# Altium footprint library TSSOP-24.PcbLib: 1 footprints
Each footprint in its own frame and in the unit in brackets; x right, y up, seen from the top. Pads: shape width x height; smd on the part's side, far side on the other; paste and mask are expansions set on the pad; w line width, h text height; cw(c..) or ccw(c..) is an arc to the next point about the centre after c.
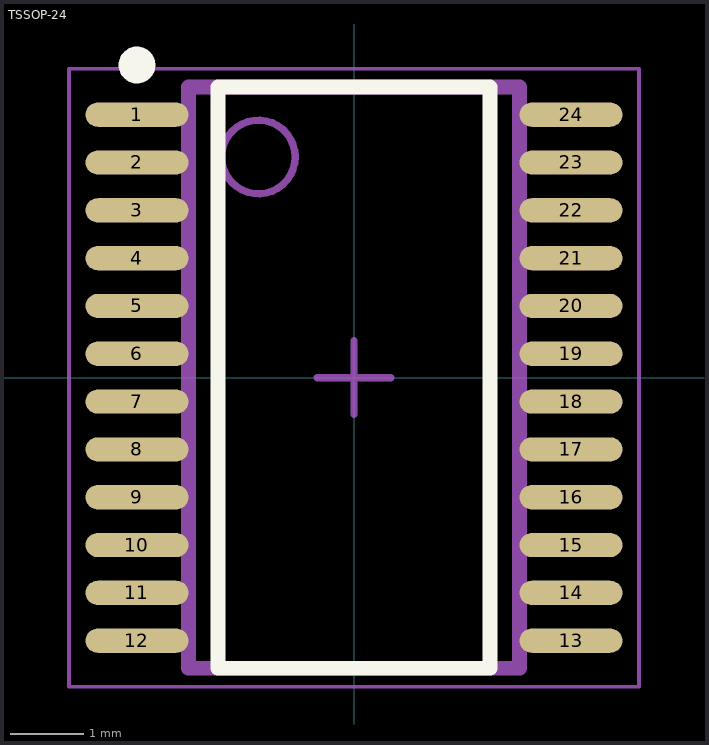
[diagram p0: the footprint, top view; thin cyan lines are the x and y axes]

## TSSOP-24 [mm] "TSSOP-24 Step 0.65mm"
height 1.2
pads (24):
  oval 1.4x0.33 smd: 1(-2.95,3.575) 2(-2.95,2.925) 3(-2.95,2.275) 4(-2.95,1.625) 5(-2.95,0.975) 6(-2.95,0.325) 7(-2.95,-0.325) 8(-2.95,-0.975) 9(-2.95,-1.625) 10(-2.95,-2.275) 11(-2.95,-2.925) 12(-2.95,-3.575) 13(2.95,-3.575) 14(2.95,-2.925) 15(2.95,-2.275) 16(2.95,-1.625) 17(2.95,-0.975) 18(2.95,-0.325) 19(2.95,0.325) 20(2.95,0.975) 21(2.95,1.625) 22(2.95,2.275) 23(2.95,2.925) 24(2.95,3.575)
Top Overlay:
  circle w0.25: c-2.95,4.25 r0.125
  lines w0.2: -1.85,-3.95 1.85,-3.95 1.85,3.95 -1.85,3.95 -1.85,-3.95
Mechanical 7:
  circle w0.1: c-1.3,3 r0.5
  lines w0.2: -2.25,-3.95 2.25,-3.95 2.25,3.95 -2.25,3.95 -2.25,-3.95
Mechanical 15:
  lines w0.05: -3.875,-4.2 3.875,-4.2 3.875,4.2 -3.875,4.2 -3.875,-4.2
  lines w0.1: -0.5,0 0.5,0 ; 0,-0.5 0,0.5
3D body: height 0.25, standoff 0, extent 0,0 0,0
3D body "RU_24.step": height 1.2, standoff 0, extent -3.25,-3.95 3.15,3.95
3D body: height 0.25, standoff 0, extent 0,0 0,0